# Altium footprint library PCB - LEADED - SOIC - TI SOIC-8 DDA0008E.PcbLib: 1 footprints
Each footprint in its own frame and in the unit in brackets; x right, y up, seen from the top. Pads: shape width x height; smd on the part's side, far side on the other; paste and mask are expansions set on the pad; w line width, h text height; cw(c..) or ccw(c..) is an arc to the next point about the centre after c.
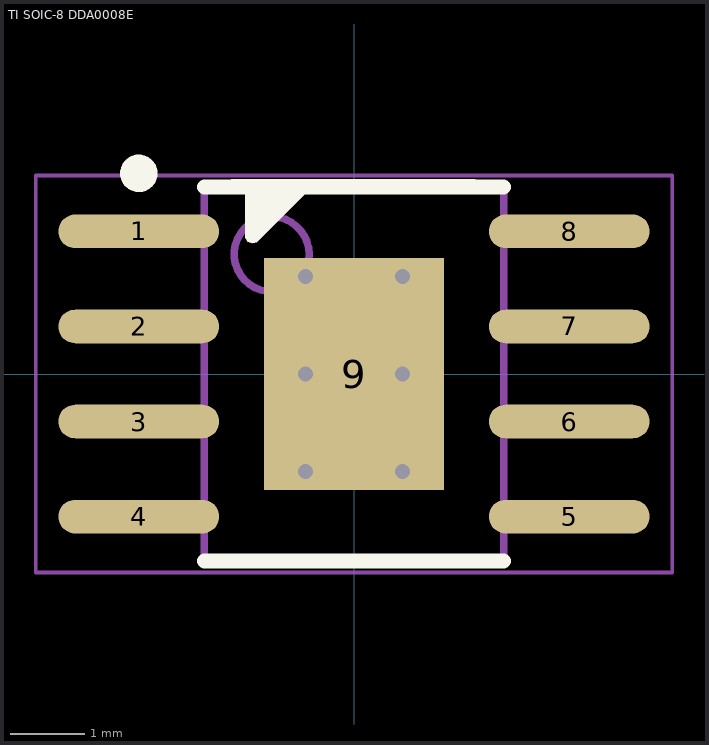
[diagram p0: the footprint, top view; thin cyan lines are the x and y axes]

## TI SOIC-8 DDA0008E [mm] "SOIC, 8-Leads, Body 4.90x3.90mm, Pitch 1.27mm, Thermal Pad 3.10x2.40mm, IPC Medium Density"
height 1.7
pads (9):
  oval 2.15x0.45 smd: 1(-2.875,1.905) 2(-2.875,0.635) 3(-2.875,-0.635) 4(-2.875,-1.905) 5(2.875,-1.905) 6(2.875,-0.635) 7(2.875,0.635) 8(2.875,1.905)
  rect 2.4x3.1 smd: 9(0,0)
via 0.65,-1.3 diameter 0.5 hole 0.2
via -0.65,-1.3 diameter 0.5 hole 0.2
via 0.65,0 diameter 0.5 hole 0.2
via -0.65,0 diameter 0.5 hole 0.2
via 0.65,1.3 diameter 0.5 hole 0.2
via -0.65,1.3 diameter 0.5 hole 0.2
Top Overlay:
  circle w0.25: c-2.875,2.68 r0.125
  region: -1.45,1.85 -1.45,2.4 -1.6,2.4 -1.642,2.4 -1.7,2.458 -1.7,2.542 -1.642,2.6 -1.6,2.6 1.6,2.6 1.62,2.6 1.657,2.585 1.685,2.557 1.7,2.52 1.7,2.5 1.7,2.48 1.685,2.443 1.657,2.415 1.62,2.4 1.6,2.4 -0.663,2.4 -0.665,2.397 -0.668,2.391 -0.672,2.386 -0.677,2.381 -0.679,2.379 -1.279,1.779 -1.301,1.757 -1.36,1.746 -1.417,1.769 -1.45,1.82
  lines w0.2: -2,-2.5 2,-2.5 ; -2,2.5 2,2.5 ; -1.35,2.5 -1.35,1.85 -0.75,2.45
Mechanical 13:
  circle w0.1: c-1.1,1.6 r0.5
  lines w0.1: -2,-2.5 -2,2.5 2,2.5 2,-2.5 -2,-2.5
Mechanical 15:
  lines w0.05: -4.25,-2.65 -4.25,2.65 4.25,2.65 4.25,-2.65 -4.25,-2.65
Mechanical 2 (Mech9):
  lines w0.1: -0.5,0 0.5,0 ; 0,-0.5 0,0.5
3D body "TI - SOIC-8 - DDA0008E v2.step": height 1.7, standoff 0, extent -3.032,-2.45 3.032,2.45